# Altium footprint library 1210R.PcbLib: 1 footprints
Each footprint in its own frame and in the unit in brackets; x right, y up, seen from the top. Pads: shape width x height; smd on the part's side, far side on the other; paste and mask are expansions set on the pad; w line width, h text height; cw(c..) or ccw(c..) is an arc to the next point about the centre after c.
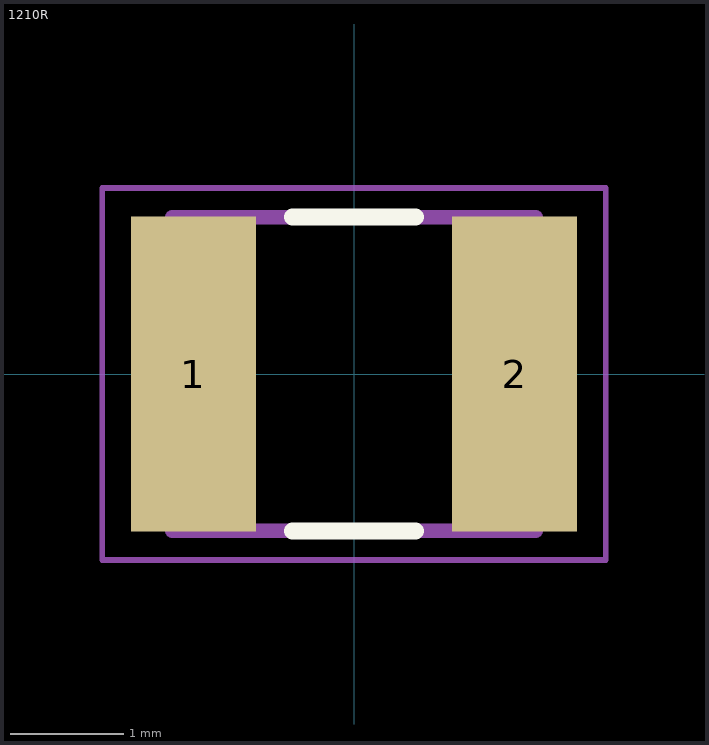
[diagram p0: the footprint, top view; thin cyan lines are the x and y axes]

## 1210R [mm]
pads (2):
  rect 1.1x2.77 smd: 1(-1.413,0) 2(1.413,0)
Top Overlay:
  lines w0.15: -0.54,-1.38 0.54,-1.38 ; -0.54,1.38 0.54,1.38
Assembly Top:
  lines w0.127: -1.6,-1.38 -1.6,1.38 1.6,1.38 1.6,-1.38 -1.6,-1.38
Courtyard Top:
  lines w0.05: -2.215,-1.635 -2.215,1.635 2.215,1.635 2.215,-1.635 -2.215,-1.635
3D body "step_temp.STEP": height 0.65, standoff 0, extent -1.55,-1.3 1.55,1.3